# Altium schematic symbol library JACK.SCHLIB: 18 symbols
Pins are listed as number, name and electrical type; pins without a type are passive.

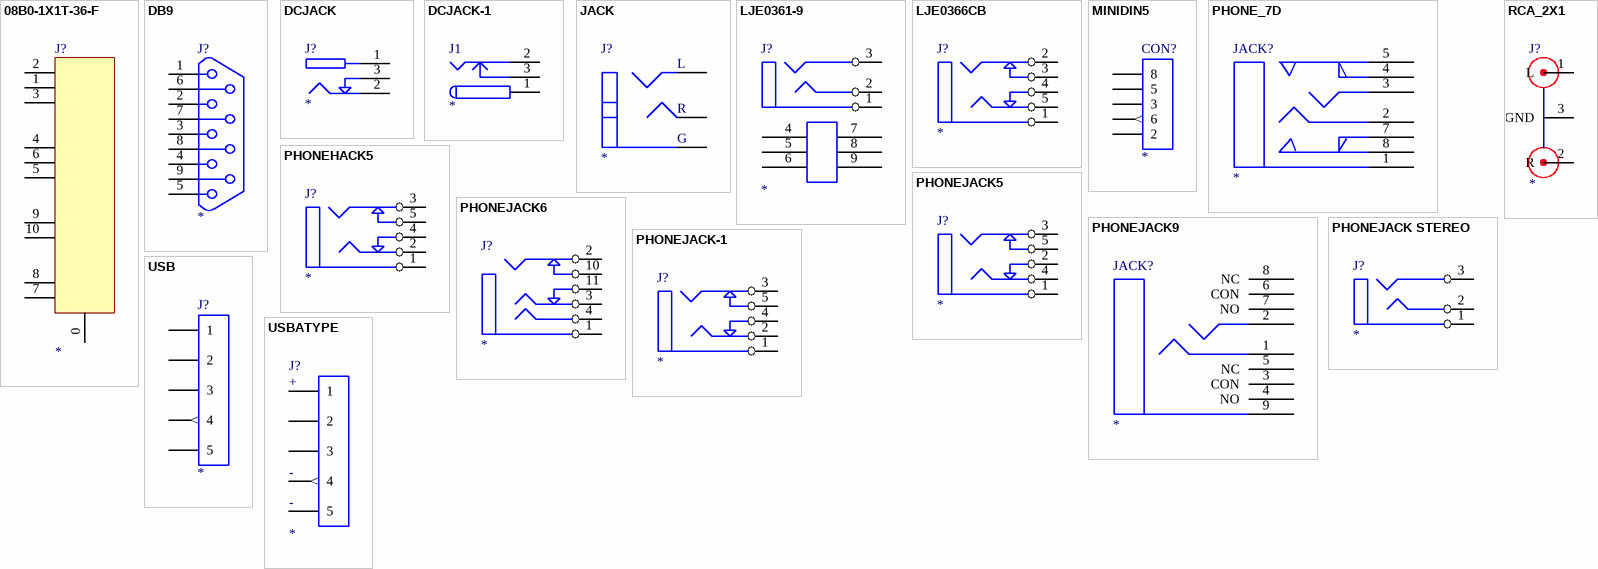
[diagram p0: symbols 08B0-1X1T-36-F to USBATYPE]

## 08B0-1X1T-36-F
designator J?
footprint 08B0-1X1T-36-F
pins: 0, 1, 2, 3, 4, 5, 6, 7, 8, 9, 10

## DB9
designator J?
footprint RS-232
pins: 1, 2, 3, 4, 5, 6, 7, 8, 9

## DCJACK
designator J?
footprint DC JACK-2.5T - NEW
pins: 1 C, 2, 3

## DCJACK-1
designator J1
Low Voltage Power Supply Connector; Published: *; DatasheetDocument: *; Publisher: *; ComponentLink1Description: *; ComponentLink1URL: *
footprint DC JACK-2.5T
pins: 1 (power), 2 (power), 3 (power)
2 alternate drawings of the same symbol

## JACK
designator J?
Connector
footprint JACK
pins: 1 L, 2 R, 3 G

## LJE0361-9
designator J?
footprint PHONEJACK
footprint PHONE3D
pins: 1 C, 2 B, 3 A, 4, 5, 6, 7, 8, 9

## LJE0366CB
designator J?
footprint PHONEJACK5
footprint PHONE180
footprint PHONEJACK
pins: 1, 2, 3, 4, 5

## MINIDIN5
designator CON?
Connector
footprint MINI-DIN
pins: 2, 3, 5, 6 (out), 8

## PHONE_7D
designator JACK?
Stereo PhoneJack With 2 SW
footprint PHONE_7D
pins: 1, 2, 3, 4, 5, 7, 8

## PHONEHACK5
designator J?
footprint PHONEJACK5
footprint PHONE180
footprint PHONEJACK
pins: 1, 2, 3, 4, 5

## PHONEJACK5
designator J?
footprint PHONEJACK5
footprint PHONE180
footprint PHONEJACK
pins: 1, 2, 3, 4, 5

## PHONEJACK6
designator J?
footprint PHONEJACK5
footprint PHONE180
footprint PHONEJACK
pins: 1, 2, 3, 4, 10, 11

## PHONEJACK9
designator JACK?
Stereo PhoneJack With 2 SW
footprint PHONEJACK9
pins: 1, 2, 3 CON, 4 NO, 5 NC, 6 CON, 7 NO, 8 NC, 9

## PHONEJACK STEREO
designator J?
footprint PHONEJACK
footprint PHONE3D
pins: 1 C, 2 B, 3 A

## PHONEJACK-1
designator J?
footprint PHONEJACK5
footprint PHONE180
footprint PHONEJACK
pins: 1, 2, 3, 4, 5

## RCA_2X1
designator J?
HSP-241V1/2
footprint RCB-202VG
footprint HSP-241V2
footprint RCA-3P2T-180-LP0860B
pins: 1 L, 2 R, 3 GND
2 alternate drawings of the same symbol

## USB
designator J?
Connector
footprint USB-A-TYPE
footprint USB_B
footprint USB_MIN_2
pins: 1, 2, 3, 4 (out), 5

## USBATYPE
designator J?
Connector
footprint USB-A-TYPE180
footprint USB_B
footprint USB-A-TYPE
footprint USBPORT
pins: 1, 2, 3, 4 (out), 5
text: +; -